# Altium footprint library DcDcBuck.PcbLib: 3 footprints
Each footprint in its own frame and in the unit in brackets; x right, y up, seen from the top. Pads: shape width x height; smd on the part's side, far side on the other; paste and mask are expansions set on the pad; w line width, h text height; cw(c..) or ccw(c..) is an arc to the next point about the centre after c.
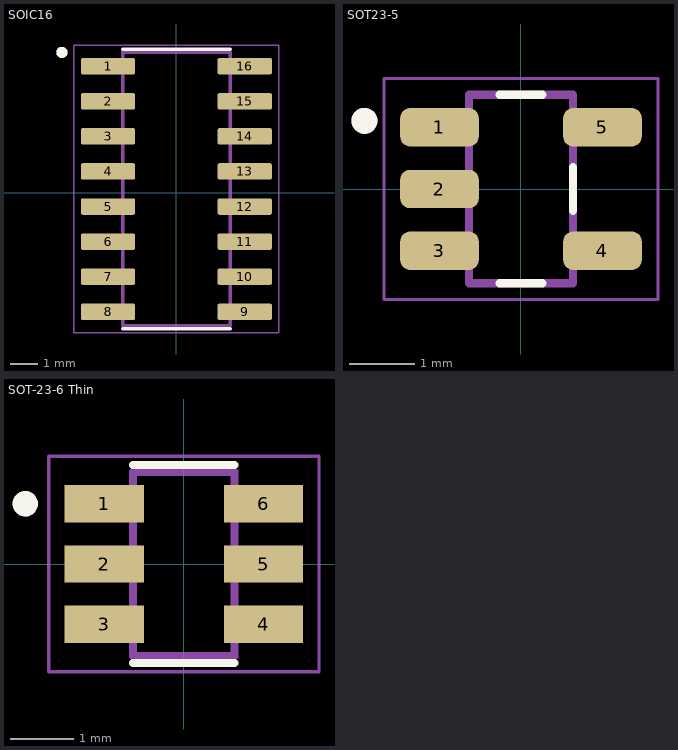
[diagram p0: the footprints below, top view; thin cyan lines are the x and y axes]

## SOIC16 [mm]
pads (16):
  rrect25% 1.97x0.6 smd: 1(-2.475,4.572) 2(-2.475,3.302) 3(-2.475,2.032) 4(-2.475,0.762) 5(-2.475,-0.508) 6(-2.475,-1.778) 7(-2.475,-3.048) 8(-2.475,-4.318) 9(2.475,-4.318) 10(2.475,-3.048) 11(2.475,-1.778) 12(2.475,-0.508) 13(2.475,0.762) 14(2.475,2.032) 15(2.475,3.302) 16(2.475,4.572)
Top Overlay:
  circle w0.2: c-4.145,5.072 r0.1
  lines w0.127: -1.95,-4.938 1.95,-4.938 ; -1.95,5.192 1.95,5.192
Mechanical 13:
  circle w0.2: c-4.145,5.072 r0.1
  lines w0.127: -1.95,-4.823 1.95,-4.823 1.95,5.077 -1.95,5.077 -1.95,-4.823
Mechanical 15:
  lines w0.05: -3.71,-5.073 3.71,-5.073 3.71,5.327 -3.71,5.327 -3.71,-5.073
3D body "SN74HC163D.STEP": height 1.75, standoff 0, extent -3,-4.826 3,5.074

## SOT23-5 [mm]
pads (5):
  rrect50% 1.21x0.59 smd: 1(-1.255,0.95) 2(-1.255,0) 3(-1.255,-0.95) 4(1.255,-0.95) 5(1.255,0.95)
Top Overlay:
  circle w0.2: c-2.41,1.05 r0.1
  lines w0.127: -0.33,-1.45 0.33,-1.45 ; -0.33,1.45 0.33,1.45 ; 0.8,-0.335 0.8,0.335
Mechanical 13:
  circle w0.2: c-2.41,1.05 r0.1
  lines w0.127: -0.8,-1.45 -0.8,1.45 0.8,1.45 0.8,-1.45 -0.8,-1.45
Mechanical 15:
  lines w0.05: -2.11,-1.7 2.11,-1.7 2.11,1.7 -2.11,1.7 -2.11,-1.7
3D body "TL331IDBVRG4.STEP": height 1.45, standoff 0, extent -1.4,-1.45 1.4,1.45

## SOT-23-6 Thin [mm]
pads (6):
  rect 1.25x0.59 smd: 1(-1.255,0.95) 2(-1.255,0) 3(-1.255,-0.95) 4(1.255,-0.95) 5(1.255,0) 6(1.255,0.95)
Top Overlay:
  circle w0.2: c-2.5,0.95 r0.1
  lines w0.127: -0.8,-1.559 0.8,-1.559 ; -0.8,1.559 0.8,1.559
Mechanical 13:
  circle w0.2: c-2.5,0.95 r0.1
  lines w0.127: -0.8,-1.45 0.8,-1.45 0.8,1.45 -0.8,1.45 -0.8,-1.45
Mechanical 15:
  lines w0.05: -2.13,-1.7 2.13,-1.7 2.13,1.7 -2.13,1.7 -2.13,-1.7
3D body "LMR51420XFDDCR.STEP": height 1.1, standoff 0, extent -1.4,-1.45 1.4,1.45